# Altium schematic symbol library diode SS34.SchLib: 1 symbol
Pins are listed as number, name and electrical type; pins without a type are passive.

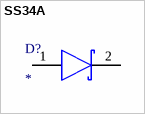
[diagram p0: symbol SS34A]

## SS34A
designator D?
Diode; Manufacturer_Name: HY Electronic Corp; Manufacturer_Part_Number: SS34A; Datasheet Link: http://docs-emea.rs-online.com/webdocs/14bb/0900766b814bbf89.pdf; Height: 2.62mm; Arrow Part Number: SS34A
footprint DIOM5026X262N
pins: 1 K, 2 A